# Altium integrated library Microchip PIC24F.IntLib: 529 symbols (part 2 of 32)
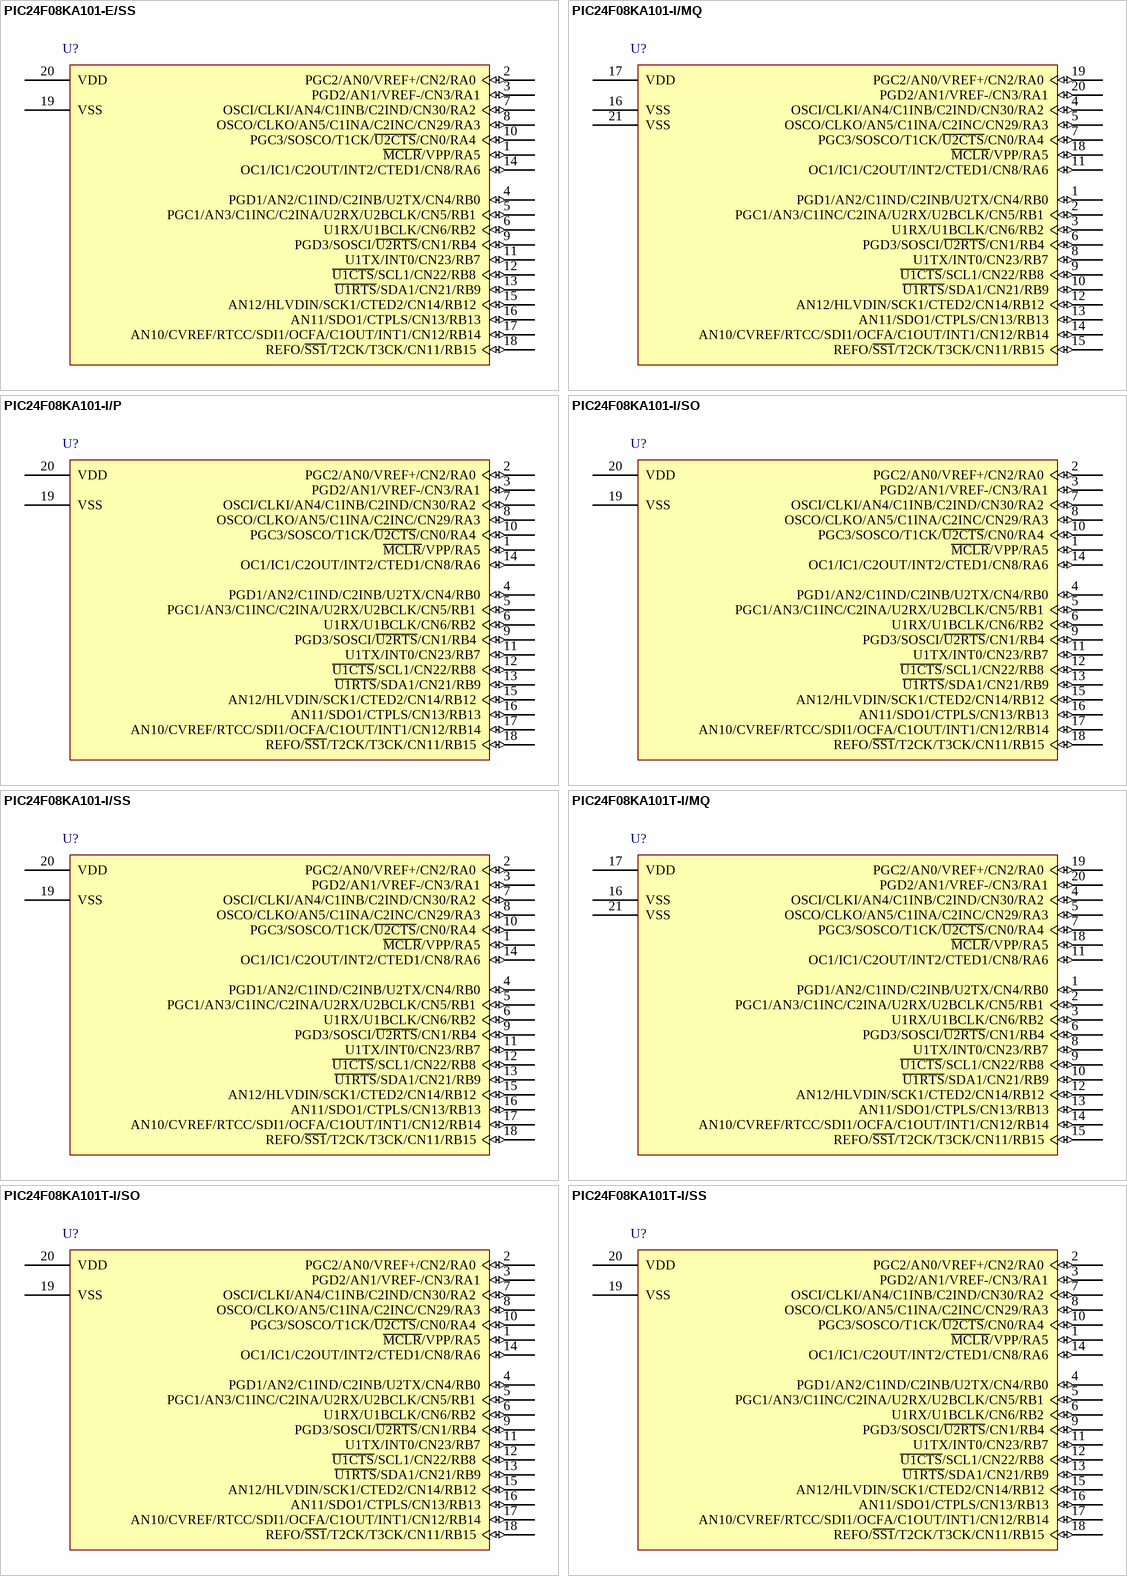
[diagram p123: symbols PIC24F08KA101-E/SS to PIC24F08KA101T-I/SS]

## PIC24F08KA101T-I/MQ
designator U?
16-Bit Flash Microcontroller with nanoWatt XLP Technology, 8KB Flash, 1.5KB SRAM, 20-Pin QFN, Industrial Temperature, Tape and Reel; Manufacturer: Microchip; PartNumber: PIC24F08KA101T-I/MQ; DatasheetVersion: revB, Mar-2009; PackageVersion: revBB, Aug-2009; PackageReference: QFN-MQ20; PackageDescription: 20-Lead Plastic Quad Flat, No Lead Package (MQ) - 5x5x0.9 mm Body [QFN]; Supplier 1: Digi-Key; Supplier Part Number 1: PIC24F08KA101T-I/MQ-ND; Supplier 2: Mouser; Supplier Part Number 2: 579-24F08KA101T-I/MQ; Mounting Technology: Surface Mount; ComponentLink1Description: Manufacturer URL; ComponentLink1URL: http://www.microchip.com/; ComponentLink2Description: Datasheet; ComponentLink2URL: http://ww1.microchip.com/downloads/en/DeviceDoc/PIC24F16KA102_Family_datasheet_39927b.pdf; ComponentLink3Description: Package Specification; ComponentLink3URL: http://www.microchip.com/stellent/groups/techpub_sg/documents/packagingspec/en012702.pdf
footprint QFN-MQ20_N (QFN, 20-Leads, Body 5x5mm, Pitch 0.65mm, Thermal Pad 3.4x3.4mm, IPC Medium Density)
footprint QFN-MQ20_L (QFN, 20-Leads, Body 5x5mm, Pitch 0.65mm, Thermal Pad 3.4x3.4mm, IPC High Density)
footprint QFN-MQ20_M (QFN, 20-Leads, Body 5x5mm, Pitch 0.65mm, Thermal Pad 3.4x3.4mm, IPC Low Density)
pins: 1 PGD1/AN2/C1IND/C2INB/U2TX/CN4/RB0 (io), 2 PGC1/AN3/C1INC/C2INA/U2RX/U2BCLK/CN5/RB1 (io), 3 U1RX/U1BCLK/CN6/RB2 (io), 4 OSCI/CLKI/AN4/C1INB/C2IND/CN30/RA2 (io), 5 OSCO/CLKO/AN5/C1INA/C2INC/CN29/RA3 (io), 6 PGD3/SOSCI/~{U2RTS}/CN1/RB4 (io), 7 PGC3/SOSCO/T1CK/~{U2CTS}/CN0/RA4 (io), 8 U1TX/INT0/CN23/RB7 (io), 9 ~{U1CTS}/SCL1/CN22/RB8 (io), 10 ~{U1RTS}/SDA1/CN21/RB9 (io), 11 OC1/IC1/C2OUT/INT2/CTED1/CN8/RA6 (io), 12 AN12/HLVDIN/SCK1/CTED2/CN14/RB12 (io), 13 AN11/SDO1/CTPLS/CN13/RB13 (io), 14 AN10/CVREF/RTCC/SDI1/OCFA/C1OUT/INT1/CN12/RB14 (io), 15 REFO/~{SS1}/T2CK/T3CK/CN11/RB15 (io), 16 VSS (power), 17 VDD (power), 18 ~{MCLR}/VPP/RA5 (io), 19 PGC2/AN0/VREF+/CN2/RA0 (io), 20 PGD2/AN1/VREF-/CN3/RA1 (io), 21 VSS (power)

## PIC24F08KA101T-I/SO
designator U?
16-Bit Flash Microcontroller with nanoWatt XLP Technology, 8KB Flash, 1.5KB SRAM, 20-Pin SOIC, Industrial Temperature, Tape and Reel; Manufacturer: Microchip; PartNumber: PIC24F08KA101T-I/SO; DatasheetVersion: revB, Mar-2009; PackageVersion: revBB, Aug-2009; PackageReference: SOIC-SO20; PackageDescription: 20-Lead Plastic Small Outline (SO) - Wide 7.50mm Body [SOIC]; Supplier 1: Digi-Key; Supplier Part Number 1: PIC24F08KA101T-I/SO-ND; Supplier 2: Mouser; Supplier Part Number 2: 579-P24F08KA101TISO; Mounting Technology: Surface Mount; Code_JEDEC: MS-013-AC; Code_IPC: SOIC127P1030-20; ComponentLink1Description: Manufacturer URL; ComponentLink1URL: http://www.microchip.com/; ComponentLink2Description: Datasheet; ComponentLink2URL: http://ww1.microchip.com/downloads/en/DeviceDoc/PIC24F16KA102_Family_datasheet_39927b.pdf; ComponentLink3Description: Package Specification; ComponentLink3URL: http://www.microchip.com/stellent/groups/techpub_sg/documents/packagingspec/en012702.pdf
footprint SOIC-SO20_N (SOIC, 20-Leads, Body 12.8x7.5mm, Pitch 1.27mm, IPC Medium Density)
footprint SOIC-SO20_L (SOIC, 20-Leads, Body 12.8x7.5mm, Pitch 1.27mm, IPC High Density)
footprint SOIC-SO20_M (SOIC, 20-Leads, Body 12.8x7.5mm, Pitch 1.27mm, IPC Low Density)
pins: 1 ~{MCLR}/VPP/RA5 (io), 2 PGC2/AN0/VREF+/CN2/RA0 (io), 3 PGD2/AN1/VREF-/CN3/RA1 (io), 4 PGD1/AN2/C1IND/C2INB/U2TX/CN4/RB0 (io), 5 PGC1/AN3/C1INC/C2INA/U2RX/U2BCLK/CN5/RB1 (io), 6 U1RX/U1BCLK/CN6/RB2 (io), 7 OSCI/CLKI/AN4/C1INB/C2IND/CN30/RA2 (io), 8 OSCO/CLKO/AN5/C1INA/C2INC/CN29/RA3 (io), 9 PGD3/SOSCI/~{U2RTS}/CN1/RB4 (io), 10 PGC3/SOSCO/T1CK/~{U2CTS}/CN0/RA4 (io), 11 U1TX/INT0/CN23/RB7 (io), 12 ~{U1CTS}/SCL1/CN22/RB8 (io), 13 ~{U1RTS}/SDA1/CN21/RB9 (io), 14 OC1/IC1/C2OUT/INT2/CTED1/CN8/RA6 (io), 15 AN12/HLVDIN/SCK1/CTED2/CN14/RB12 (io), 16 AN11/SDO1/CTPLS/CN13/RB13 (io), 17 AN10/CVREF/RTCC/SDI1/OCFA/C1OUT/INT1/CN12/RB14 (io), 18 REFO/~{SS1}/T2CK/T3CK/CN11/RB15 (io), 19 VSS (power), 20 VDD (power)

## PIC24F08KA101T-I/SS
designator U?
16-Bit Flash Microcontroller with nanoWatt XLP Technology, 8KB Flash, 1.5KB SRAM, 20-Pin SSOP, Industrial Temperature, Tape and Reel; Manufacturer: Microchip; PartNumber: PIC24F08KA101T-I/SS; DatasheetVersion: revB, Mar-2009; PackageVersion: revBB, Aug-2009; PackageReference: SSOP-SS20; PackageDescription: 20-Lead Plastic Shrink Small Outline (SS) - 5.3mm Body [SSOP]; Supplier 1: Digi-Key; Supplier Part Number 1: PIC24F08KA101T-I/SS-ND; Supplier 2: Mouser; Supplier Part Number 2: 579-P24F08KA101TISS; Mounting Technology: Surface Mount; Code_JEDEC: MO-150; ComponentLink1Description: Manufacturer URL; ComponentLink1URL: http://www.microchip.com/; ComponentLink2Description: Datasheet; ComponentLink2URL: http://ww1.microchip.com/downloads/en/DeviceDoc/PIC24F16KA102_Family_datasheet_39927b.pdf; ComponentLink3Description: Package Specification; ComponentLink3URL: http://www.microchip.com/stellent/groups/techpub_sg/documents/packagingspec/en012702.pdf
footprint SSOP-SS20_N (SOP, 20-Leads, Body 7.2x5.2mm, Pitch 0.65mm, IPC Medium Density)
footprint SSOP-SS20_L (SOP, 20-Leads, Body 7.2x5.2mm, Pitch 0.65mm, IPC High Density)
footprint SSOP-SS20_M (SOP, 20-Leads, Body 7.2x5.2mm, Pitch 0.65mm, IPC Low Density)
pins: 1 ~{MCLR}/VPP/RA5 (io), 2 PGC2/AN0/VREF+/CN2/RA0 (io), 3 PGD2/AN1/VREF-/CN3/RA1 (io), 4 PGD1/AN2/C1IND/C2INB/U2TX/CN4/RB0 (io), 5 PGC1/AN3/C1INC/C2INA/U2RX/U2BCLK/CN5/RB1 (io), 6 U1RX/U1BCLK/CN6/RB2 (io), 7 OSCI/CLKI/AN4/C1INB/C2IND/CN30/RA2 (io), 8 OSCO/CLKO/AN5/C1INA/C2INC/CN29/RA3 (io), 9 PGD3/SOSCI/~{U2RTS}/CN1/RB4 (io), 10 PGC3/SOSCO/T1CK/~{U2CTS}/CN0/RA4 (io), 11 U1TX/INT0/CN23/RB7 (io), 12 ~{U1CTS}/SCL1/CN22/RB8 (io), 13 ~{U1RTS}/SDA1/CN21/RB9 (io), 14 OC1/IC1/C2OUT/INT2/CTED1/CN8/RA6 (io), 15 AN12/HLVDIN/SCK1/CTED2/CN14/RB12 (io), 16 AN11/SDO1/CTPLS/CN13/RB13 (io), 17 AN10/CVREF/RTCC/SDI1/OCFA/C1OUT/INT1/CN12/RB14 (io), 18 REFO/~{SS1}/T2CK/T3CK/CN11/RB15 (io), 19 VSS (power), 20 VDD (power)

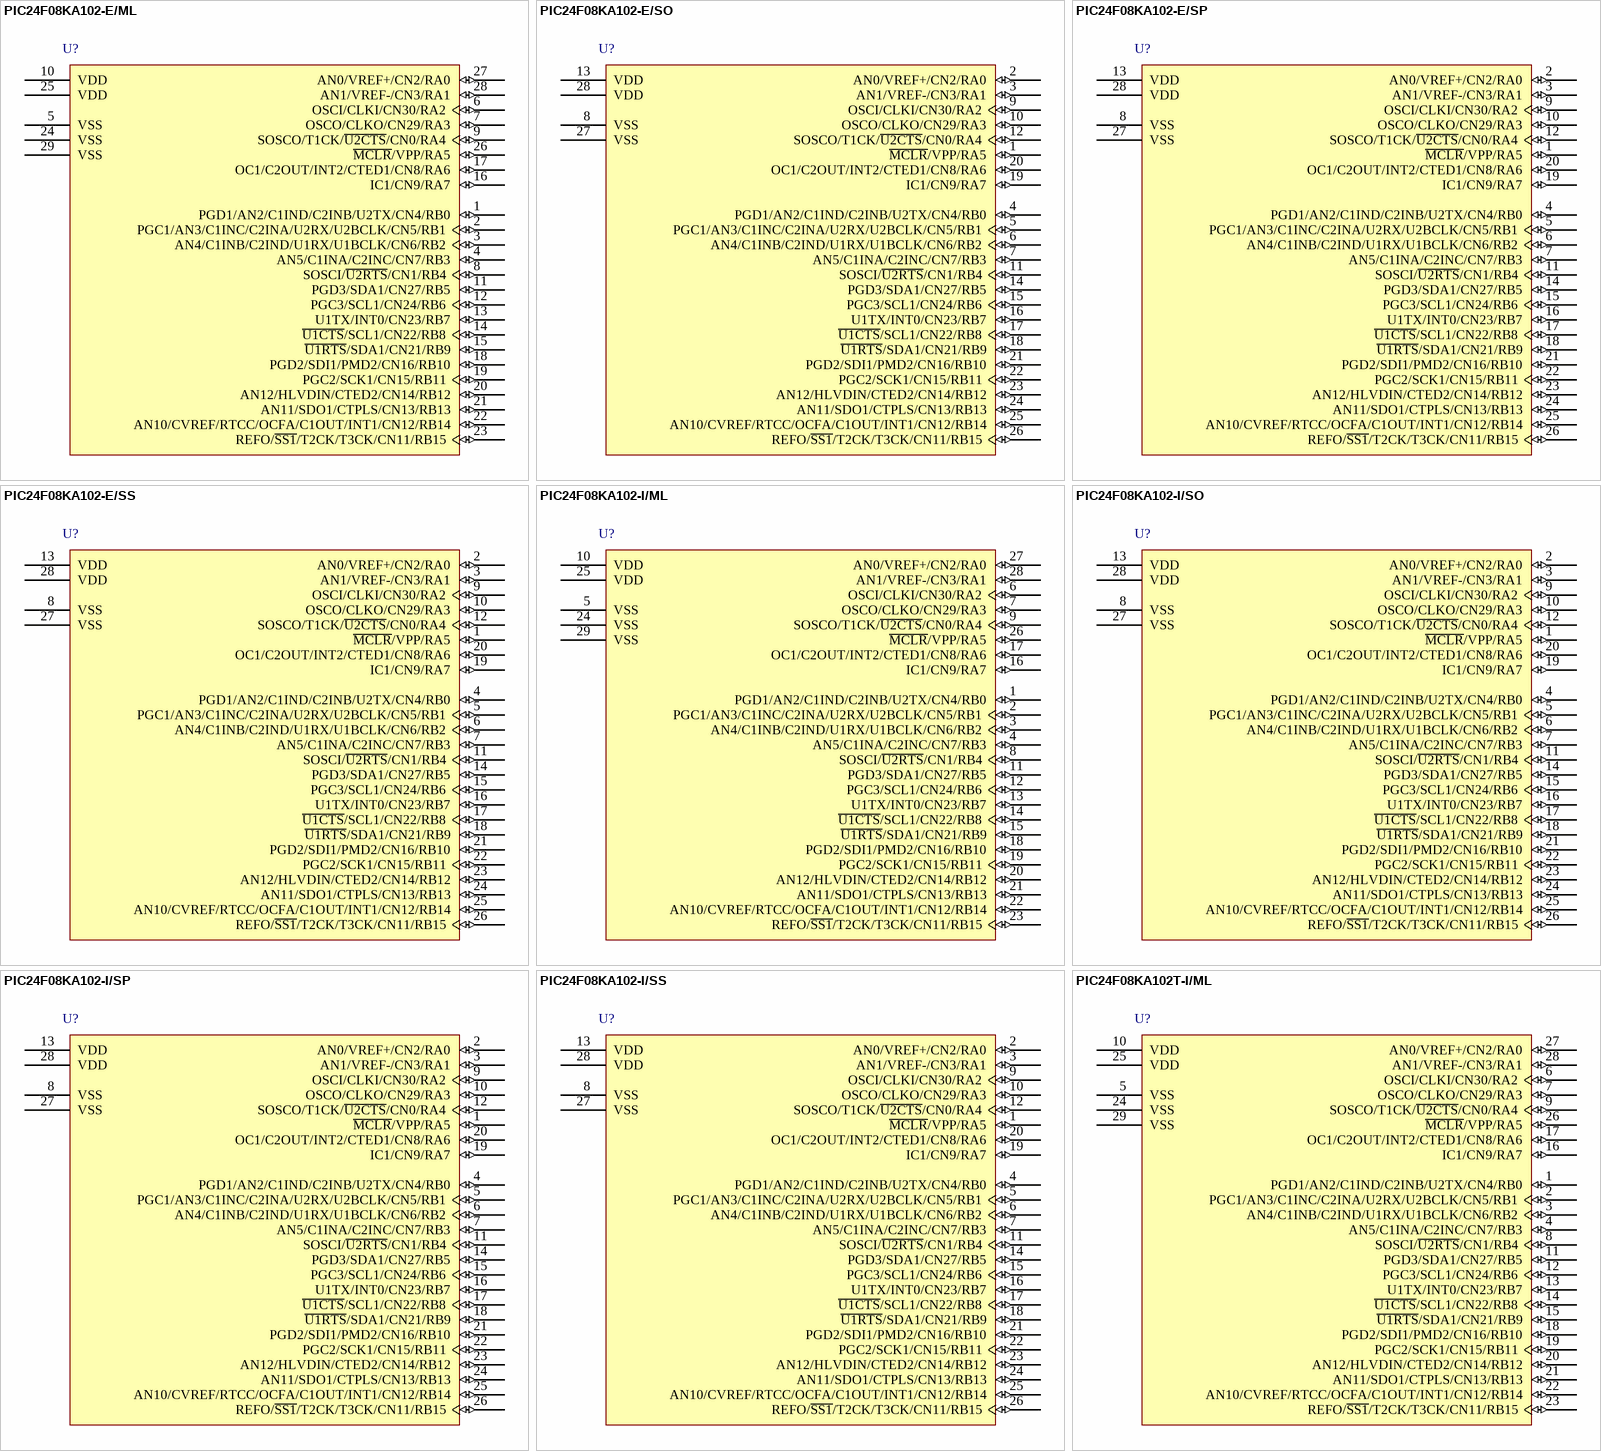
[diagram p3: symbols PIC24F08KA102-E/ML to PIC24F08KA102T-I/ML]

## PIC24F08KA102-E/ML
designator U?
16-Bit Flash Microcontroller with nanoWatt XLP Technology, 8KB Flash, 1.5KB SRAM, 28-Pin QFN, Extended Temperature; Manufacturer: Microchip; PartNumber: PIC24F08KA102-E/ML; DatasheetVersion: revB, Mar-2009; PackageVersion: revBB, Aug-2009; PackageReference: QFN-ML28; PackageDescription: 28-Lead Plastic Quad Flat, No Lead Package (ML) - 6x6 mm Body [QFN] with 0.55 mm Contact Length; Supplier 1: Digi-Key; Supplier Part Number 1: PIC24F08KA102-E/ML-ND; Supplier 2: Mouser; Supplier Part Number 2: 579-PIC24F08KA102EML; Mounting Technology: Surface Mount; Code_JEDEC: MO-220; ComponentLink1Description: Manufacturer URL; ComponentLink1URL: http://www.microchip.com/; ComponentLink2Description: Datasheet; ComponentLink2URL: http://ww1.microchip.com/downloads/en/DeviceDoc/PIC24F16KA102_Family_datasheet_39927b.pdf; ComponentLink3Description: Package Specification; ComponentLink3URL: http://www.microchip.com/stellent/groups/techpub_sg/documents/packagingspec/en012702.pdf
footprint QFN-ML28_N (QFN, 28-Leads, Body 6x6mm, Pitch 0.65mm, Thermal Pad 4.2x4.2mm, IPC Medium Density)
footprint QFN-ML28_L (QFN, 28-Leads, Body 6x6mm, Pitch 0.65mm, Thermal Pad 4.2x4.2mm, IPC High Density)
footprint QFN-ML28_M (QFN, 28-Leads, Body 6x6mm, Pitch 0.65mm, Thermal Pad 4.2x4.2mm, IPC Low Density)
pins: 1 PGD1/AN2/C1IND/C2INB/U2TX/CN4/RB0 (io), 2 PGC1/AN3/C1INC/C2INA/U2RX/U2BCLK/CN5/RB1 (io), 3 AN4/C1INB/C2IND/U1RX/U1BCLK/CN6/RB2 (io), 4 AN5/C1INA/C2INC/CN7/RB3 (io), 5 VSS (power), 6 OSCI/CLKI/CN30/RA2 (io), 7 OSCO/CLKO/CN29/RA3 (io), 8 SOSCI/~{U2RTS}/CN1/RB4 (io), 9 SOSCO/T1CK/~{U2CTS}/CN0/RA4 (io), 10 VDD (power), 11 PGD3/SDA1/CN27/RB5 (io), 12 PGC3/SCL1/CN24/RB6 (io), 13 U1TX/INT0/CN23/RB7 (io), 14 ~{U1CTS}/SCL1/CN22/RB8 (io), 15 ~{U1RTS}/SDA1/CN21/RB9 (io), 16 IC1/CN9/RA7 (io), 17 OC1/C2OUT/INT2/CTED1/CN8/RA6 (io), 18 PGD2/SDI1/PMD2/CN16/RB10 (io), 19 PGC2/SCK1/CN15/RB11 (io), 20 AN12/HLVDIN/CTED2/CN14/RB12 (io), 21 AN11/SDO1/CTPLS/CN13/RB13 (io), 22 AN10/CVREF/RTCC/OCFA/C1OUT/INT1/CN12/RB14 (io), 23 REFO/~{SS1}/T2CK/T3CK/CN11/RB15 (io), 24 VSS (power), 25 VDD (power), 26 ~{MCLR}/VPP/RA5 (io), 27 AN0/VREF+/CN2/RA0 (io), 28 AN1/VREF-/CN3/RA1 (io), 29 VSS (power)

## PIC24F08KA102-E/SO
designator U?
16-Bit Flash Microcontroller with nanoWatt XLP Technology, 8KB Flash, 1.5KB SRAM, 28-Pin SOIC, Extended Temperature; Manufacturer: Microchip; PartNumber: PIC24F08KA102-E/SO; DatasheetVersion: revB, Mar-2009; PackageVersion: revBB, Aug-2009; PackageReference: SOIC-SO28; PackageDescription: 28-Lead Plastic Small Outline (SO) - Wide 7.50mm Body [SOIC]; Supplier 1: Digi-Key; Supplier Part Number 1: PIC24F08KA102-E/SO-ND; Supplier 2: Mouser; Supplier Part Number 2: 579-PIC24F08KA102ESO; Mounting Technology: Surface Mount; Code_JEDEC: MS-013; ComponentLink1Description: Manufacturer URL; ComponentLink1URL: http://www.microchip.com/; ComponentLink2Description: Datasheet; ComponentLink2URL: http://ww1.microchip.com/downloads/en/DeviceDoc/PIC24F16KA102_Family_datasheet_39927b.pdf; ComponentLink3Description: Package Specification; ComponentLink3URL: http://www.microchip.com/stellent/groups/techpub_sg/documents/packagingspec/en012702.pdf
footprint SOIC-SO28_N (SOIC, 28-Leads, Body 17.9x7.5mm, Pitch 1.27mm, IPC Medium Density)
footprint SOIC-SO28_L (SOIC, 28-Leads, Body 17.9x7.5mm, Pitch 1.27mm, IPC High Density)
footprint SOIC-SO28_M (SOIC, 28-Leads, Body 17.9x7.5mm, Pitch 1.27mm, IPC Low Density)
pins: 1 ~{MCLR}/VPP/RA5 (io), 2 AN0/VREF+/CN2/RA0 (io), 3 AN1/VREF-/CN3/RA1 (io), 4 PGD1/AN2/C1IND/C2INB/U2TX/CN4/RB0 (io), 5 PGC1/AN3/C1INC/C2INA/U2RX/U2BCLK/CN5/RB1 (io), 6 AN4/C1INB/C2IND/U1RX/U1BCLK/CN6/RB2 (io), 7 AN5/C1INA/C2INC/CN7/RB3 (io), 8 VSS (power), 9 OSCI/CLKI/CN30/RA2 (io), 10 OSCO/CLKO/CN29/RA3 (io), 11 SOSCI/~{U2RTS}/CN1/RB4 (io), 12 SOSCO/T1CK/~{U2CTS}/CN0/RA4 (io), 13 VDD (power), 14 PGD3/SDA1/CN27/RB5 (io), 15 PGC3/SCL1/CN24/RB6 (io), 16 U1TX/INT0/CN23/RB7 (io), 17 ~{U1CTS}/SCL1/CN22/RB8 (io), 18 ~{U1RTS}/SDA1/CN21/RB9 (io), 19 IC1/CN9/RA7 (io), 20 OC1/C2OUT/INT2/CTED1/CN8/RA6 (io), 21 PGD2/SDI1/PMD2/CN16/RB10 (io), 22 PGC2/SCK1/CN15/RB11 (io), 23 AN12/HLVDIN/CTED2/CN14/RB12 (io), 24 AN11/SDO1/CTPLS/CN13/RB13 (io), 25 AN10/CVREF/RTCC/OCFA/C1OUT/INT1/CN12/RB14 (io), 26 REFO/~{SS1}/T2CK/T3CK/CN11/RB15 (io), 27 VSS (power), 28 VDD (power)

## PIC24F08KA102-E/SP
designator U?
16-Bit Flash Microcontroller with nanoWatt XLP Technology, 8KB Flash, 1.5KB SRAM, 28-Pin SPDIP, Extended Temperature; Manufacturer: Microchip; PartNumber: PIC24F08KA102-E/SP; DatasheetVersion: revB, Mar-2009; PackageVersion: revBB, Aug-2009; PackageReference: SPDIP300-SP28; PackageDescription: 28-Lead Skinny Plastic Dual In-Line (SP) - 300 mil Body [SPDIP]; Supplier 1: Digi-Key; Supplier Part Number 1: PIC24F08KA102-E/SP-ND; Supplier 2: Mouser; Supplier Part Number 2: 579-PIC24F08KA102ESP; Mounting Technology: Through Hole; ComponentLink1Description: Manufacturer URL; ComponentLink1URL: http://www.microchip.com/; ComponentLink2Description: Datasheet; ComponentLink2URL: http://ww1.microchip.com/downloads/en/DeviceDoc/PIC24F16KA102_Family_datasheet_39927b.pdf; ComponentLink3Description: Package Specification; ComponentLink3URL: http://www.microchip.com/stellent/groups/techpub_sg/documents/packagingspec/en012702.pdf
footprint SPDIP300-SP28 (DIP, 28-Leads, Row Spacing 7.62mm, Pitch 2.54mm, Body 34.9x6.8mm)
pins: 1 ~{MCLR}/VPP/RA5 (io), 2 AN0/VREF+/CN2/RA0 (io), 3 AN1/VREF-/CN3/RA1 (io), 4 PGD1/AN2/C1IND/C2INB/U2TX/CN4/RB0 (io), 5 PGC1/AN3/C1INC/C2INA/U2RX/U2BCLK/CN5/RB1 (io), 6 AN4/C1INB/C2IND/U1RX/U1BCLK/CN6/RB2 (io), 7 AN5/C1INA/C2INC/CN7/RB3 (io), 8 VSS (power), 9 OSCI/CLKI/CN30/RA2 (io), 10 OSCO/CLKO/CN29/RA3 (io), 11 SOSCI/~{U2RTS}/CN1/RB4 (io), 12 SOSCO/T1CK/~{U2CTS}/CN0/RA4 (io), 13 VDD (power), 14 PGD3/SDA1/CN27/RB5 (io), 15 PGC3/SCL1/CN24/RB6 (io), 16 U1TX/INT0/CN23/RB7 (io), 17 ~{U1CTS}/SCL1/CN22/RB8 (io), 18 ~{U1RTS}/SDA1/CN21/RB9 (io), 19 IC1/CN9/RA7 (io), 20 OC1/C2OUT/INT2/CTED1/CN8/RA6 (io), 21 PGD2/SDI1/PMD2/CN16/RB10 (io), 22 PGC2/SCK1/CN15/RB11 (io), 23 AN12/HLVDIN/CTED2/CN14/RB12 (io), 24 AN11/SDO1/CTPLS/CN13/RB13 (io), 25 AN10/CVREF/RTCC/OCFA/C1OUT/INT1/CN12/RB14 (io), 26 REFO/~{SS1}/T2CK/T3CK/CN11/RB15 (io), 27 VSS (power), 28 VDD (power)

## PIC24F08KA102-E/SS
designator U?
16-Bit Flash Microcontroller with nanoWatt XLP Technology, 8KB Flash, 1.5KB SRAM, 28-Pin SSOP, Extended Temperature; Manufacturer: Microchip; PartNumber: PIC24F08KA102-E/SS; DatasheetVersion: revB, Mar-2009; PackageVersion: revBB, Aug-2009; PackageReference: SSOP-SS28; PackageDescription: 28-Lead Plastic Shrink Small Outline (SS) - 5.3mm Body [SSOP]; Supplier 1: Digi-Key; Supplier Part Number 1: PIC24F08KA102-E/SS-ND; Supplier 2: Mouser; Supplier Part Number 2: 579-PIC24F08KA102ESS; Mounting Technology: Surface Mount; Code_JEDEC: MS-150; ComponentLink1Description: Manufacturer URL; ComponentLink1URL: http://www.microchip.com/; ComponentLink2Description: Datasheet; ComponentLink2URL: http://ww1.microchip.com/downloads/en/DeviceDoc/PIC24F16KA102_Family_datasheet_39927b.pdf; ComponentLink3Description: Package Specification; ComponentLink3URL: http://www.microchip.com/stellent/groups/techpub_sg/documents/packagingspec/en012702.pdf
footprint SSOP-SS28_N (SOP, 28-Leads, Body 10.2x5.2mm, Pitch 0.65mm, IPC Medium Density)
footprint SSOP-SS28_L (SOP, 28-Leads, Body 10.2x5.2mm, Pitch 0.65mm, IPC High Density)
footprint SSOP-SS28_M (SOP, 28-Leads, Body 10.2x5.2mm, Pitch 0.65mm, IPC Low Density)
pins: 1 ~{MCLR}/VPP/RA5 (io), 2 AN0/VREF+/CN2/RA0 (io), 3 AN1/VREF-/CN3/RA1 (io), 4 PGD1/AN2/C1IND/C2INB/U2TX/CN4/RB0 (io), 5 PGC1/AN3/C1INC/C2INA/U2RX/U2BCLK/CN5/RB1 (io), 6 AN4/C1INB/C2IND/U1RX/U1BCLK/CN6/RB2 (io), 7 AN5/C1INA/C2INC/CN7/RB3 (io), 8 VSS (power), 9 OSCI/CLKI/CN30/RA2 (io), 10 OSCO/CLKO/CN29/RA3 (io), 11 SOSCI/~{U2RTS}/CN1/RB4 (io), 12 SOSCO/T1CK/~{U2CTS}/CN0/RA4 (io), 13 VDD (power), 14 PGD3/SDA1/CN27/RB5 (io), 15 PGC3/SCL1/CN24/RB6 (io), 16 U1TX/INT0/CN23/RB7 (io), 17 ~{U1CTS}/SCL1/CN22/RB8 (io), 18 ~{U1RTS}/SDA1/CN21/RB9 (io), 19 IC1/CN9/RA7 (io), 20 OC1/C2OUT/INT2/CTED1/CN8/RA6 (io), 21 PGD2/SDI1/PMD2/CN16/RB10 (io), 22 PGC2/SCK1/CN15/RB11 (io), 23 AN12/HLVDIN/CTED2/CN14/RB12 (io), 24 AN11/SDO1/CTPLS/CN13/RB13 (io), 25 AN10/CVREF/RTCC/OCFA/C1OUT/INT1/CN12/RB14 (io), 26 REFO/~{SS1}/T2CK/T3CK/CN11/RB15 (io), 27 VSS (power), 28 VDD (power)

## PIC24F08KA102-I/ML
designator U?
16-Bit Flash Microcontroller with nanoWatt XLP Technology, 8KB Flash, 1.5KB SRAM, 28-Pin QFN, Industrial Temperature; Manufacturer: Microchip; PartNumber: PIC24F08KA102-I/ML; DatasheetVersion: revB, Mar-2009; PackageVersion: revBB, Aug-2009; PackageReference: QFN-ML28; PackageDescription: 28-Lead Plastic Quad Flat, No Lead Package (ML) - 6x6 mm Body [QFN] with 0.55 mm Contact Length; Supplier 1: Digi-Key; Supplier Part Number 1: PIC24F08KA102-I/ML-ND; Supplier 2: Farnell; Supplier Part Number 2: 1707622; Supplier 3: Newark; Supplier Part Number 3: 40M1454; Supplier 4: Mouser; Supplier Part Number 4: 579-PIC24F08KA102IML; Mounting Technology: Surface Mount; Code_JEDEC: MO-220; ComponentLink1Description: Manufacturer URL; ComponentLink1URL: http://www.microchip.com/; ComponentLink2Description: Datasheet; ComponentLink2URL: http://ww1.microchip.com/downloads/en/DeviceDoc/PIC24F16KA102_Family_datasheet_39927b.pdf; ComponentLink3Description: Package Specification; ComponentLink3URL: http://www.microchip.com/stellent/groups/techpub_sg/documents/packagingspec/en012702.pdf
footprint QFN-ML28_N (QFN, 28-Leads, Body 6x6mm, Pitch 0.65mm, Thermal Pad 4.2x4.2mm, IPC Medium Density)
footprint QFN-ML28_L (QFN, 28-Leads, Body 6x6mm, Pitch 0.65mm, Thermal Pad 4.2x4.2mm, IPC High Density)
footprint QFN-ML28_M (QFN, 28-Leads, Body 6x6mm, Pitch 0.65mm, Thermal Pad 4.2x4.2mm, IPC Low Density)
pins: 1 PGD1/AN2/C1IND/C2INB/U2TX/CN4/RB0 (io), 2 PGC1/AN3/C1INC/C2INA/U2RX/U2BCLK/CN5/RB1 (io), 3 AN4/C1INB/C2IND/U1RX/U1BCLK/CN6/RB2 (io), 4 AN5/C1INA/C2INC/CN7/RB3 (io), 5 VSS (power), 6 OSCI/CLKI/CN30/RA2 (io), 7 OSCO/CLKO/CN29/RA3 (io), 8 SOSCI/~{U2RTS}/CN1/RB4 (io), 9 SOSCO/T1CK/~{U2CTS}/CN0/RA4 (io), 10 VDD (power), 11 PGD3/SDA1/CN27/RB5 (io), 12 PGC3/SCL1/CN24/RB6 (io), 13 U1TX/INT0/CN23/RB7 (io), 14 ~{U1CTS}/SCL1/CN22/RB8 (io), 15 ~{U1RTS}/SDA1/CN21/RB9 (io), 16 IC1/CN9/RA7 (io), 17 OC1/C2OUT/INT2/CTED1/CN8/RA6 (io), 18 PGD2/SDI1/PMD2/CN16/RB10 (io), 19 PGC2/SCK1/CN15/RB11 (io), 20 AN12/HLVDIN/CTED2/CN14/RB12 (io), 21 AN11/SDO1/CTPLS/CN13/RB13 (io), 22 AN10/CVREF/RTCC/OCFA/C1OUT/INT1/CN12/RB14 (io), 23 REFO/~{SS1}/T2CK/T3CK/CN11/RB15 (io), 24 VSS (power), 25 VDD (power), 26 ~{MCLR}/VPP/RA5 (io), 27 AN0/VREF+/CN2/RA0 (io), 28 AN1/VREF-/CN3/RA1 (io), 29 VSS (power)

## PIC24F08KA102-I/SO
designator U?
16-Bit Flash Microcontroller with nanoWatt XLP Technology, 8KB Flash, 1.5KB SRAM, 28-Pin SOIC, Industrial Temperature; Manufacturer: Microchip; PartNumber: PIC24F08KA102-I/SO; DatasheetVersion: revB, Mar-2009; PackageVersion: revBB, Aug-2009; PackageReference: SOIC-SO28; PackageDescription: 28-Lead Plastic Small Outline (SO) - Wide 7.50mm Body [SOIC]; Supplier 1: Digi-Key; Supplier Part Number 1: PIC24F08KA102-I/SO-ND; Supplier 2: Farnell; Supplier Part Number 2: 1707623; Supplier 3: Newark; Supplier Part Number 3: 40M1455; Supplier 4: Mouser; Supplier Part Number 4: 579-PIC24F08KA102ISO; Mounting Technology: Surface Mount; Code_JEDEC: MS-013; ComponentLink1Description: Manufacturer URL; ComponentLink1URL: http://www.microchip.com/; ComponentLink2Description: Datasheet; ComponentLink2URL: http://ww1.microchip.com/downloads/en/DeviceDoc/PIC24F16KA102_Family_datasheet_39927b.pdf; ComponentLink3Description: Package Specification; ComponentLink3URL: http://www.microchip.com/stellent/groups/techpub_sg/documents/packagingspec/en012702.pdf
footprint SOIC-SO28_N (SOIC, 28-Leads, Body 17.9x7.5mm, Pitch 1.27mm, IPC Medium Density)
footprint SOIC-SO28_L (SOIC, 28-Leads, Body 17.9x7.5mm, Pitch 1.27mm, IPC High Density)
footprint SOIC-SO28_M (SOIC, 28-Leads, Body 17.9x7.5mm, Pitch 1.27mm, IPC Low Density)
pins: 1 ~{MCLR}/VPP/RA5 (io), 2 AN0/VREF+/CN2/RA0 (io), 3 AN1/VREF-/CN3/RA1 (io), 4 PGD1/AN2/C1IND/C2INB/U2TX/CN4/RB0 (io), 5 PGC1/AN3/C1INC/C2INA/U2RX/U2BCLK/CN5/RB1 (io), 6 AN4/C1INB/C2IND/U1RX/U1BCLK/CN6/RB2 (io), 7 AN5/C1INA/C2INC/CN7/RB3 (io), 8 VSS (power), 9 OSCI/CLKI/CN30/RA2 (io), 10 OSCO/CLKO/CN29/RA3 (io), 11 SOSCI/~{U2RTS}/CN1/RB4 (io), 12 SOSCO/T1CK/~{U2CTS}/CN0/RA4 (io), 13 VDD (power), 14 PGD3/SDA1/CN27/RB5 (io), 15 PGC3/SCL1/CN24/RB6 (io), 16 U1TX/INT0/CN23/RB7 (io), 17 ~{U1CTS}/SCL1/CN22/RB8 (io), 18 ~{U1RTS}/SDA1/CN21/RB9 (io), 19 IC1/CN9/RA7 (io), 20 OC1/C2OUT/INT2/CTED1/CN8/RA6 (io), 21 PGD2/SDI1/PMD2/CN16/RB10 (io), 22 PGC2/SCK1/CN15/RB11 (io), 23 AN12/HLVDIN/CTED2/CN14/RB12 (io), 24 AN11/SDO1/CTPLS/CN13/RB13 (io), 25 AN10/CVREF/RTCC/OCFA/C1OUT/INT1/CN12/RB14 (io), 26 REFO/~{SS1}/T2CK/T3CK/CN11/RB15 (io), 27 VSS (power), 28 VDD (power)

## PIC24F08KA102-I/SP
designator U?
16-Bit Flash Microcontroller with nanoWatt XLP Technology, 8KB Flash, 1.5KB SRAM, 28-Pin SPDIP, Industrial Temperature; Manufacturer: Microchip; PartNumber: PIC24F08KA102-I/SP; DatasheetVersion: revB, Mar-2009; PackageVersion: revBB, Aug-2009; PackageReference: SPDIP300-SP28; PackageDescription: 28-Lead Skinny Plastic Dual In-Line (SP) - 300 mil Body [SPDIP]; Supplier 1: Digi-Key; Supplier Part Number 1: PIC24F08KA102-I/SP-ND; Supplier 2: Farnell; Supplier Part Number 2: 1707624; Supplier 3: Newark; Supplier Part Number 3: 40M1456; Supplier 4: Mouser; Supplier Part Number 4: 579-PIC24F08KA102ISP; Mounting Technology: Through Hole; ComponentLink1Description: Manufacturer URL; ComponentLink1URL: http://www.microchip.com/; ComponentLink2Description: Datasheet; ComponentLink2URL: http://ww1.microchip.com/downloads/en/DeviceDoc/PIC24F16KA102_Family_datasheet_39927b.pdf; ComponentLink3Description: Package Specification; ComponentLink3URL: http://www.microchip.com/stellent/groups/techpub_sg/documents/packagingspec/en012702.pdf
footprint SPDIP300-SP28 (DIP, 28-Leads, Row Spacing 7.62mm, Pitch 2.54mm, Body 34.9x6.8mm)
pins: 1 ~{MCLR}/VPP/RA5 (io), 2 AN0/VREF+/CN2/RA0 (io), 3 AN1/VREF-/CN3/RA1 (io), 4 PGD1/AN2/C1IND/C2INB/U2TX/CN4/RB0 (io), 5 PGC1/AN3/C1INC/C2INA/U2RX/U2BCLK/CN5/RB1 (io), 6 AN4/C1INB/C2IND/U1RX/U1BCLK/CN6/RB2 (io), 7 AN5/C1INA/C2INC/CN7/RB3 (io), 8 VSS (power), 9 OSCI/CLKI/CN30/RA2 (io), 10 OSCO/CLKO/CN29/RA3 (io), 11 SOSCI/~{U2RTS}/CN1/RB4 (io), 12 SOSCO/T1CK/~{U2CTS}/CN0/RA4 (io), 13 VDD (power), 14 PGD3/SDA1/CN27/RB5 (io), 15 PGC3/SCL1/CN24/RB6 (io), 16 U1TX/INT0/CN23/RB7 (io), 17 ~{U1CTS}/SCL1/CN22/RB8 (io), 18 ~{U1RTS}/SDA1/CN21/RB9 (io), 19 IC1/CN9/RA7 (io), 20 OC1/C2OUT/INT2/CTED1/CN8/RA6 (io), 21 PGD2/SDI1/PMD2/CN16/RB10 (io), 22 PGC2/SCK1/CN15/RB11 (io), 23 AN12/HLVDIN/CTED2/CN14/RB12 (io), 24 AN11/SDO1/CTPLS/CN13/RB13 (io), 25 AN10/CVREF/RTCC/OCFA/C1OUT/INT1/CN12/RB14 (io), 26 REFO/~{SS1}/T2CK/T3CK/CN11/RB15 (io), 27 VSS (power), 28 VDD (power)

## PIC24F08KA102-I/SS
designator U?
16-Bit Flash Microcontroller with nanoWatt XLP Technology, 8KB Flash, 1.5KB SRAM, 28-Pin SSOP, Industrial Temperature; Manufacturer: Microchip; PartNumber: PIC24F08KA102-I/SS; DatasheetVersion: revB, Mar-2009; PackageVersion: revBB, Aug-2009; PackageReference: SSOP-SS28; PackageDescription: 28-Lead Plastic Shrink Small Outline (SS) - 5.3mm Body [SSOP]; Supplier 1: Digi-Key; Supplier Part Number 1: PIC24F08KA102-I/SS-ND; Supplier 2: Farnell; Supplier Part Number 2: 1707625; Supplier 3: Newark; Supplier Part Number 3: 40M1457; Supplier 4: Mouser; Supplier Part Number 4: 579-PIC24F08KA102ISS; Mounting Technology: Surface Mount; Code_JEDEC: MS-150; ComponentLink1Description: Manufacturer URL; ComponentLink1URL: http://www.microchip.com/; ComponentLink2Description: Datasheet; ComponentLink2URL: http://ww1.microchip.com/downloads/en/DeviceDoc/PIC24F16KA102_Family_datasheet_39927b.pdf; ComponentLink3Description: Package Specification; ComponentLink3URL: http://www.microchip.com/stellent/groups/techpub_sg/documents/packagingspec/en012702.pdf
footprint SSOP-SS28_N (SOP, 28-Leads, Body 10.2x5.2mm, Pitch 0.65mm, IPC Medium Density)
footprint SSOP-SS28_L (SOP, 28-Leads, Body 10.2x5.2mm, Pitch 0.65mm, IPC High Density)
footprint SSOP-SS28_M (SOP, 28-Leads, Body 10.2x5.2mm, Pitch 0.65mm, IPC Low Density)
pins: 1 ~{MCLR}/VPP/RA5 (io), 2 AN0/VREF+/CN2/RA0 (io), 3 AN1/VREF-/CN3/RA1 (io), 4 PGD1/AN2/C1IND/C2INB/U2TX/CN4/RB0 (io), 5 PGC1/AN3/C1INC/C2INA/U2RX/U2BCLK/CN5/RB1 (io), 6 AN4/C1INB/C2IND/U1RX/U1BCLK/CN6/RB2 (io), 7 AN5/C1INA/C2INC/CN7/RB3 (io), 8 VSS (power), 9 OSCI/CLKI/CN30/RA2 (io), 10 OSCO/CLKO/CN29/RA3 (io), 11 SOSCI/~{U2RTS}/CN1/RB4 (io), 12 SOSCO/T1CK/~{U2CTS}/CN0/RA4 (io), 13 VDD (power), 14 PGD3/SDA1/CN27/RB5 (io), 15 PGC3/SCL1/CN24/RB6 (io), 16 U1TX/INT0/CN23/RB7 (io), 17 ~{U1CTS}/SCL1/CN22/RB8 (io), 18 ~{U1RTS}/SDA1/CN21/RB9 (io), 19 IC1/CN9/RA7 (io), 20 OC1/C2OUT/INT2/CTED1/CN8/RA6 (io), 21 PGD2/SDI1/PMD2/CN16/RB10 (io), 22 PGC2/SCK1/CN15/RB11 (io), 23 AN12/HLVDIN/CTED2/CN14/RB12 (io), 24 AN11/SDO1/CTPLS/CN13/RB13 (io), 25 AN10/CVREF/RTCC/OCFA/C1OUT/INT1/CN12/RB14 (io), 26 REFO/~{SS1}/T2CK/T3CK/CN11/RB15 (io), 27 VSS (power), 28 VDD (power)

## PIC24F08KA102T-I/ML
designator U?
16-Bit Flash Microcontroller with nanoWatt XLP Technology, 8KB Flash, 1.5KB SRAM, 28-Pin QFN, Industrial Temperature, Tape and Reel; Manufacturer: Microchip; PartNumber: PIC24F08KA102T-I/ML; DatasheetVersion: revB, Mar-2009; PackageVersion: revBB, Aug-2009; PackageReference: QFN-ML28; PackageDescription: 28-Lead Plastic Quad Flat, No Lead Package (ML) - 6x6 mm Body [QFN] with 0.55 mm Contact Length; Supplier 1: Digi-Key; Supplier Part Number 1: PIC24F08KA102T-I/ML-ND; Supplier 2: Mouser; Supplier Part Number 2: 579-P24F08KA102TIML; Mounting Technology: Surface Mount; Code_JEDEC: MO-220; ComponentLink1Description: Manufacturer URL; ComponentLink1URL: http://www.microchip.com/; ComponentLink2Description: Datasheet; ComponentLink2URL: http://ww1.microchip.com/downloads/en/DeviceDoc/PIC24F16KA102_Family_datasheet_39927b.pdf; ComponentLink3Description: Package Specification; ComponentLink3URL: http://www.microchip.com/stellent/groups/techpub_sg/documents/packagingspec/en012702.pdf
footprint QFN-ML28_N (QFN, 28-Leads, Body 6x6mm, Pitch 0.65mm, Thermal Pad 4.2x4.2mm, IPC Medium Density)
footprint QFN-ML28_L (QFN, 28-Leads, Body 6x6mm, Pitch 0.65mm, Thermal Pad 4.2x4.2mm, IPC High Density)
footprint QFN-ML28_M (QFN, 28-Leads, Body 6x6mm, Pitch 0.65mm, Thermal Pad 4.2x4.2mm, IPC Low Density)
pins: 1 PGD1/AN2/C1IND/C2INB/U2TX/CN4/RB0 (io), 2 PGC1/AN3/C1INC/C2INA/U2RX/U2BCLK/CN5/RB1 (io), 3 AN4/C1INB/C2IND/U1RX/U1BCLK/CN6/RB2 (io), 4 AN5/C1INA/C2INC/CN7/RB3 (io), 5 VSS (power), 6 OSCI/CLKI/CN30/RA2 (io), 7 OSCO/CLKO/CN29/RA3 (io), 8 SOSCI/~{U2RTS}/CN1/RB4 (io), 9 SOSCO/T1CK/~{U2CTS}/CN0/RA4 (io), 10 VDD (power), 11 PGD3/SDA1/CN27/RB5 (io), 12 PGC3/SCL1/CN24/RB6 (io), 13 U1TX/INT0/CN23/RB7 (io), 14 ~{U1CTS}/SCL1/CN22/RB8 (io), 15 ~{U1RTS}/SDA1/CN21/RB9 (io), 16 IC1/CN9/RA7 (io), 17 OC1/C2OUT/INT2/CTED1/CN8/RA6 (io), 18 PGD2/SDI1/PMD2/CN16/RB10 (io), 19 PGC2/SCK1/CN15/RB11 (io), 20 AN12/HLVDIN/CTED2/CN14/RB12 (io), 21 AN11/SDO1/CTPLS/CN13/RB13 (io), 22 AN10/CVREF/RTCC/OCFA/C1OUT/INT1/CN12/RB14 (io), 23 REFO/~{SS1}/T2CK/T3CK/CN11/RB15 (io), 24 VSS (power), 25 VDD (power), 26 ~{MCLR}/VPP/RA5 (io), 27 AN0/VREF+/CN2/RA0 (io), 28 AN1/VREF-/CN3/RA1 (io), 29 VSS (power)

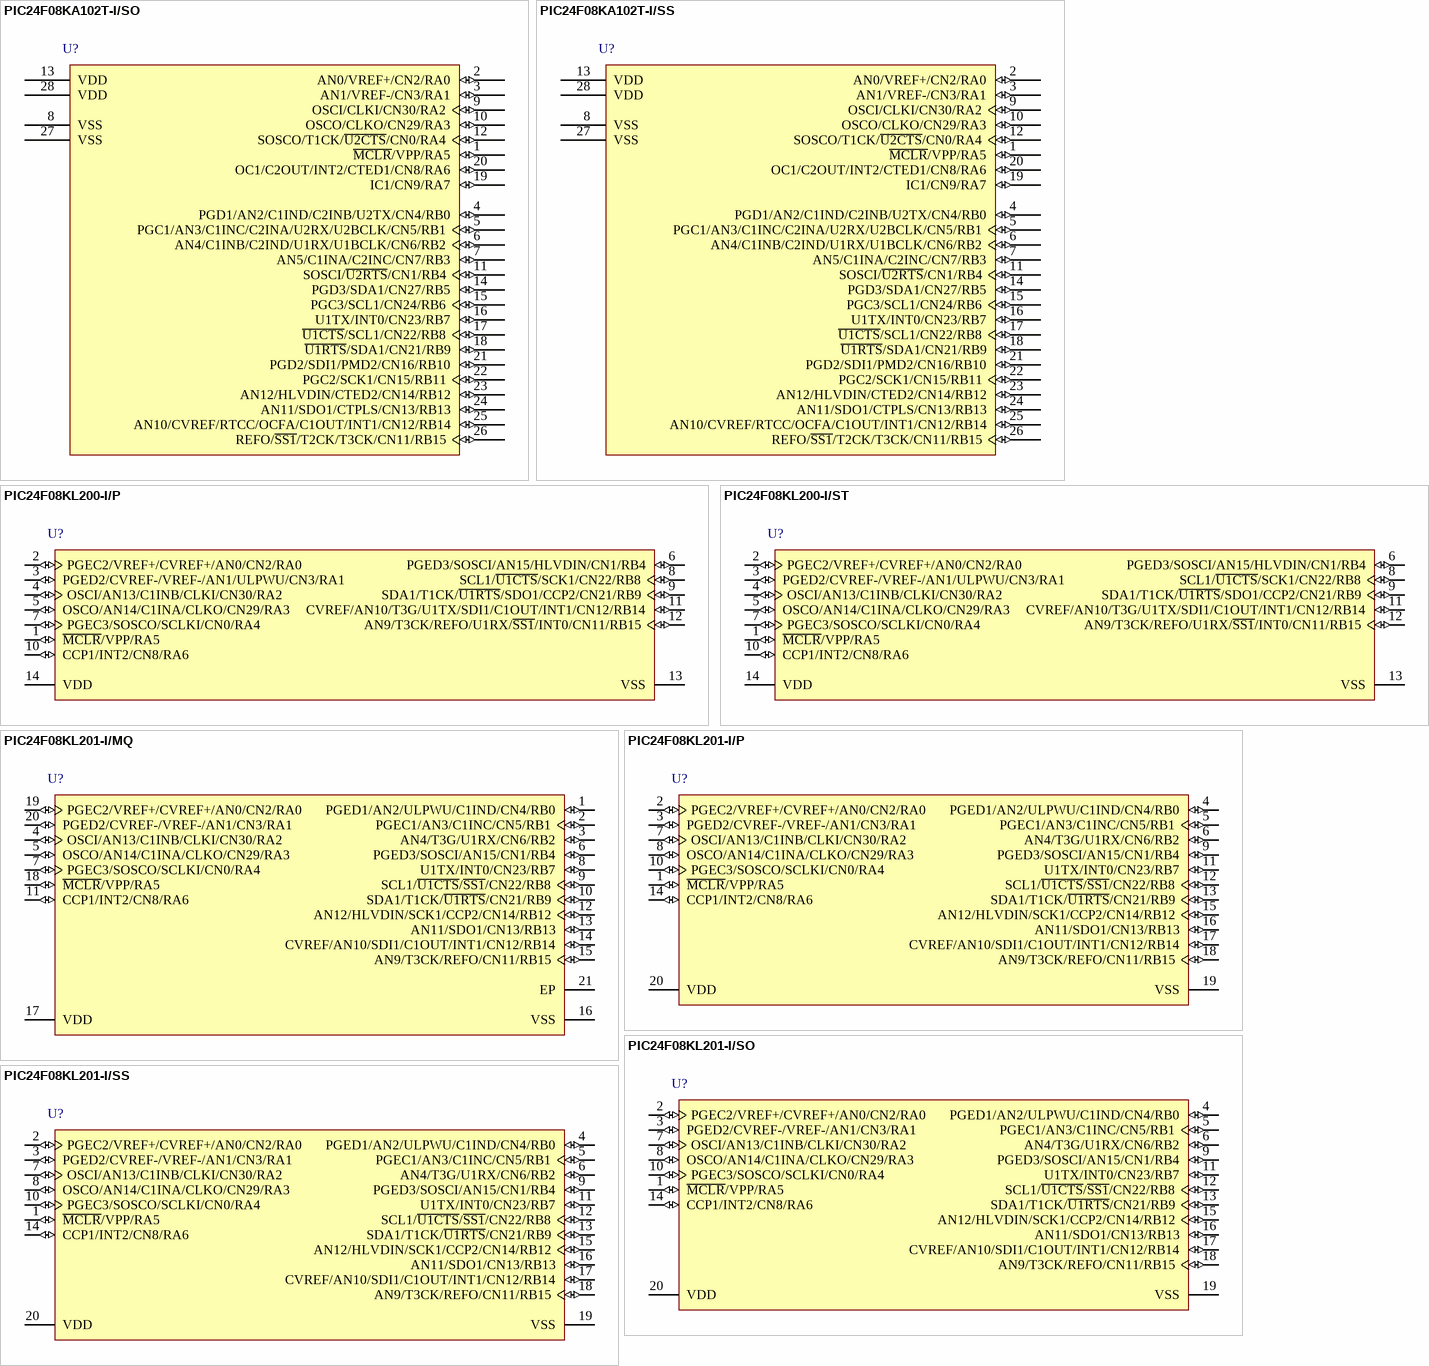
[diagram p4: symbols PIC24F08KA102T-I/SO to PIC24F08KL201-I/SS]

## PIC24F08KA102T-I/SO
designator U?
16-Bit Flash Microcontroller with nanoWatt XLP Technology, 8KB Flash, 1.5KB SRAM, 28-Pin SOIC, Industrial Temperature, Tape and Reel; Manufacturer: Microchip; PartNumber: PIC24F08KA102T-I/SO; DatasheetVersion: revB, Mar-2009; PackageVersion: revBB, Aug-2009; PackageReference: SOIC-SO28; PackageDescription: 28-Lead Plastic Small Outline (SO) - Wide 7.50mm Body [SOIC]; Supplier 1: Digi-Key; Supplier Part Number 1: PIC24F08KA102T-I/SO-ND; Supplier 2: Mouser; Supplier Part Number 2: 579-P24F08KA102TISO; Mounting Technology: Surface Mount; Code_JEDEC: MS-013; ComponentLink1Description: Manufacturer URL; ComponentLink1URL: http://www.microchip.com/; ComponentLink2Description: Datasheet; ComponentLink2URL: http://ww1.microchip.com/downloads/en/DeviceDoc/PIC24F16KA102_Family_datasheet_39927b.pdf; ComponentLink3Description: Package Specification; ComponentLink3URL: http://www.microchip.com/stellent/groups/techpub_sg/documents/packagingspec/en012702.pdf
footprint SOIC-SO28_N (SOIC, 28-Leads, Body 17.9x7.5mm, Pitch 1.27mm, IPC Medium Density)
footprint SOIC-SO28_L (SOIC, 28-Leads, Body 17.9x7.5mm, Pitch 1.27mm, IPC High Density)
footprint SOIC-SO28_M (SOIC, 28-Leads, Body 17.9x7.5mm, Pitch 1.27mm, IPC Low Density)
pins: 1 ~{MCLR}/VPP/RA5 (io), 2 AN0/VREF+/CN2/RA0 (io), 3 AN1/VREF-/CN3/RA1 (io), 4 PGD1/AN2/C1IND/C2INB/U2TX/CN4/RB0 (io), 5 PGC1/AN3/C1INC/C2INA/U2RX/U2BCLK/CN5/RB1 (io), 6 AN4/C1INB/C2IND/U1RX/U1BCLK/CN6/RB2 (io), 7 AN5/C1INA/C2INC/CN7/RB3 (io), 8 VSS (power), 9 OSCI/CLKI/CN30/RA2 (io), 10 OSCO/CLKO/CN29/RA3 (io), 11 SOSCI/~{U2RTS}/CN1/RB4 (io), 12 SOSCO/T1CK/~{U2CTS}/CN0/RA4 (io), 13 VDD (power), 14 PGD3/SDA1/CN27/RB5 (io), 15 PGC3/SCL1/CN24/RB6 (io), 16 U1TX/INT0/CN23/RB7 (io), 17 ~{U1CTS}/SCL1/CN22/RB8 (io), 18 ~{U1RTS}/SDA1/CN21/RB9 (io), 19 IC1/CN9/RA7 (io), 20 OC1/C2OUT/INT2/CTED1/CN8/RA6 (io), 21 PGD2/SDI1/PMD2/CN16/RB10 (io), 22 PGC2/SCK1/CN15/RB11 (io), 23 AN12/HLVDIN/CTED2/CN14/RB12 (io), 24 AN11/SDO1/CTPLS/CN13/RB13 (io), 25 AN10/CVREF/RTCC/OCFA/C1OUT/INT1/CN12/RB14 (io), 26 REFO/~{SS1}/T2CK/T3CK/CN11/RB15 (io), 27 VSS (power), 28 VDD (power)

## PIC24F08KA102T-I/SS
designator U?
16-Bit Flash Microcontroller with nanoWatt XLP Technology, 8KB Flash, 1.5KB SRAM, 28-Pin SSOP, Industrial Temperature, Tape and Reel; Manufacturer: Microchip; PartNumber: PIC24F08KA102T-I/SS; DatasheetVersion: revB, Mar-2009; PackageVersion: revBB, Aug-2009; PackageReference: SSOP-SS28; PackageDescription: 28-Lead Plastic Shrink Small Outline (SS) - 5.3mm Body [SSOP]; Supplier 1: Digi-Key; Supplier Part Number 1: PIC24F08KA102T-I/SS-ND; Supplier 2: Newark; Supplier Part Number 2: 07P9746; Supplier 3: Mouser; Supplier Part Number 3: 579-P24F08KA102TISS; Mounting Technology: Surface Mount; Code_JEDEC: MS-150; ComponentLink1Description: Manufacturer URL; ComponentLink1URL: http://www.microchip.com/; ComponentLink2Description: Datasheet; ComponentLink2URL: http://ww1.microchip.com/downloads/en/DeviceDoc/PIC24F16KA102_Family_datasheet_39927b.pdf; ComponentLink3Description: Package Specification; ComponentLink3URL: http://www.microchip.com/stellent/groups/techpub_sg/documents/packagingspec/en012702.pdf
footprint SSOP-SS28_N (SOP, 28-Leads, Body 10.2x5.2mm, Pitch 0.65mm, IPC Medium Density)
footprint SSOP-SS28_L (SOP, 28-Leads, Body 10.2x5.2mm, Pitch 0.65mm, IPC High Density)
footprint SSOP-SS28_M (SOP, 28-Leads, Body 10.2x5.2mm, Pitch 0.65mm, IPC Low Density)
pins: 1 ~{MCLR}/VPP/RA5 (io), 2 AN0/VREF+/CN2/RA0 (io), 3 AN1/VREF-/CN3/RA1 (io), 4 PGD1/AN2/C1IND/C2INB/U2TX/CN4/RB0 (io), 5 PGC1/AN3/C1INC/C2INA/U2RX/U2BCLK/CN5/RB1 (io), 6 AN4/C1INB/C2IND/U1RX/U1BCLK/CN6/RB2 (io), 7 AN5/C1INA/C2INC/CN7/RB3 (io), 8 VSS (power), 9 OSCI/CLKI/CN30/RA2 (io), 10 OSCO/CLKO/CN29/RA3 (io), 11 SOSCI/~{U2RTS}/CN1/RB4 (io), 12 SOSCO/T1CK/~{U2CTS}/CN0/RA4 (io), 13 VDD (power), 14 PGD3/SDA1/CN27/RB5 (io), 15 PGC3/SCL1/CN24/RB6 (io), 16 U1TX/INT0/CN23/RB7 (io), 17 ~{U1CTS}/SCL1/CN22/RB8 (io), 18 ~{U1RTS}/SDA1/CN21/RB9 (io), 19 IC1/CN9/RA7 (io), 20 OC1/C2OUT/INT2/CTED1/CN8/RA6 (io), 21 PGD2/SDI1/PMD2/CN16/RB10 (io), 22 PGC2/SCK1/CN15/RB11 (io), 23 AN12/HLVDIN/CTED2/CN14/RB12 (io), 24 AN11/SDO1/CTPLS/CN13/RB13 (io), 25 AN10/CVREF/RTCC/OCFA/C1OUT/INT1/CN12/RB14 (io), 26 REFO/~{SS1}/T2CK/T3CK/CN11/RB15 (io), 27 VSS (power), 28 VDD (power)

## PIC24F08KL200-I/P
designator U?
Low-Cost General Purpose 16-Bit Flash Microcontroller with nanoWatt XLP Technology, 16 MIPS, 12 I/O, -40 to 85 degC, 14-pin PDIP (P14), Tube; Manufacturer: Microchip; PartNumber: PIC24F08KL200-I/P; DatasheetVersion: Rev. B; PackageVersion: C04-005B; PackageReference: PDIP-P14; PackageDescription: 14-Lead Plastic Dual In-Line, 6.6 x 19.18 mm Body, 2.54 mm Pitch; Supplier 1: Digi-Key; Supplier Part Number 1: PIC24F08KL200-I/P-ND; Supplier 2: Newark; Supplier Part Number 2: 64T1087; Supplier 3: Mouser; Supplier Part Number 3: 579-PIC24F08KL200-IP; Mounting Technology: Through Hole; ComponentLink1Description: Manufacturer URL; ComponentLink1URL: http://www.microchip.com; ComponentLink2Description: Datasheet; ComponentLink2URL: http://ww1.microchip.com/downloads/en/DeviceDoc/31037b.pdf; ComponentLink3Description: Package Specification; ComponentLink3URL: http://www.microchip.com/stellent/groups/techpub_sg/documents/packagingspec/en012702.pdf; ComponentLink4Description: Product URL; ComponentLink4URL: http://www.microchip.com/PIC24F08KL200
footprint MCHP-PDIP-P14 (DIP, 14-Leads, Body 19.177x6.604mm, Pitch 2.54mm)
pins: 1 ~{MCLR}/VPP/RA5 (io), 2 PGEC2/VREF+/CVREF+/AN0/CN2/RA0 (io), 3 PGED2/CVREF-/VREF-/AN1/ULPWU/CN3/RA1 (io), 4 OSCI/AN13/C1INB/CLKI/CN30/RA2 (io), 5 OSCO/AN14/C1INA/CLKO/CN29/RA3 (io), 6 PGED3/SOSCI/AN15/HLVDIN/CN1/RB4 (io), 7 PGEC3/SOSCO/SCLKI/CN0/RA4 (io), 8 SCL1/~{U1CTS}/SCK1/CN22/RB8 (io), 9 SDA1/T1CK/~{U1RTS}/SDO1/CCP2/CN21/RB9 (io), 10 CCP1/INT2/CN8/RA6 (io), 11 CVREF/AN10/T3G/U1TX/SDI1/C1OUT/INT1/CN12/RB14 (io), 12 AN9/T3CK/REFO/U1RX/~{SS1}/INT0/CN11/RB15 (io), 13 VSS (power) "Ground Reference for Logic and I/O Pins", 14 VDD (power) "Positive Supply for Peripheral Digital Logic and I/O Pins"

## PIC24F08KL200-I/ST
designator U?
Low-Cost General Purpose 16-Bit Flash Microcontroller with nanoWatt XLP Technology, 16 MIPS, 12 I/O, -40 to 85 degC, 14-pin TSSOP (ST14), Tube; Manufacturer: Microchip; PartNumber: PIC24F08KL200-I/ST; DatasheetVersion: Rev. B; PackageVersion: C04-087C; PackageReference: TSSOP-ST14; PackageDescription: 14-Lead Plastic Thin Shrink Small Outline, 5 x 4.4 mm Body, 0.65 mm Pitch; Supplier 1: Digi-Key; Supplier Part Number 1: PIC24F08KL200-I/ST-ND; Supplier 2: Mouser; Supplier Part Number 2: 579-PIC24F08KL200IST; Mounting Technology: Surface Mount; ComponentLink1Description: Manufacturer URL; ComponentLink1URL: http://www.microchip.com; ComponentLink2Description: Datasheet; ComponentLink2URL: http://ww1.microchip.com/downloads/en/DeviceDoc/31037b.pdf; ComponentLink3Description: Package Specification; ComponentLink3URL: http://www.microchip.com/stellent/groups/techpub_sg/documents/packagingspec/en012702.pdf; ComponentLink4Description: Product URL; ComponentLink4URL: http://www.microchip.com/PIC24F08KL200
footprint MCHP-TSSOP-ST14_N (SOP, 14-Leads, Body 5x4.4mm, Pitch 0.65mm, IPC Medium Density)
footprint MCHP-TSSOP-ST14_L (SOP, 14-Leads, Body 5x4.4mm, Pitch 0.65mm, IPC High Density)
footprint MCHP-TSSOP-ST14_M (SOP, 14-Leads, Body 5x4.4mm, Pitch 0.65mm, IPC Low Density)
pins: 1 ~{MCLR}/VPP/RA5 (io), 2 PGEC2/VREF+/CVREF+/AN0/CN2/RA0 (io), 3 PGED2/CVREF-/VREF-/AN1/ULPWU/CN3/RA1 (io), 4 OSCI/AN13/C1INB/CLKI/CN30/RA2 (io), 5 OSCO/AN14/C1INA/CLKO/CN29/RA3 (io), 6 PGED3/SOSCI/AN15/HLVDIN/CN1/RB4 (io), 7 PGEC3/SOSCO/SCLKI/CN0/RA4 (io), 8 SCL1/~{U1CTS}/SCK1/CN22/RB8 (io), 9 SDA1/T1CK/~{U1RTS}/SDO1/CCP2/CN21/RB9 (io), 10 CCP1/INT2/CN8/RA6 (io), 11 CVREF/AN10/T3G/U1TX/SDI1/C1OUT/INT1/CN12/RB14 (io), 12 AN9/T3CK/REFO/U1RX/~{SS1}/INT0/CN11/RB15 (io), 13 VSS (power) "Ground Reference for Logic and I/O Pins", 14 VDD (power) "Positive Supply for Peripheral Digital Logic and I/O Pins"

## PIC24F08KL201-I/MQ
designator U?
Low-Cost General Purpose 16-Bit Flash Microcontroller with nanoWatt XLP Technology, 16 MIPS, 17 I/O, -40 to 85 degC, 20-pin QFN (MQ20), Tube; Manufacturer: Microchip; PartNumber: PIC24F08KL201-I/MQ; DatasheetVersion: Rev. B; PackageVersion: C04-139B; PackageReference: QFN-MQ20; PackageDescription: 20-Lead Plastic Quad Flat, No Lead Package, 5 x 5 mm Body, 0.65 mm Pitch; Supplier 1: Digi-Key; Supplier Part Number 1: PIC24F08KL201-I/MQ-ND; Supplier 2: Mouser; Supplier Part Number 2: 579-PIC24F08KL201IMQ; Mounting Technology: Surface Mount; ComponentLink1Description: Manufacturer URL; ComponentLink1URL: http://www.microchip.com; ComponentLink2Description: Datasheet; ComponentLink2URL: http://ww1.microchip.com/downloads/en/DeviceDoc/31037b.pdf; ComponentLink3Description: Package Specification; ComponentLink3URL: http://www.microchip.com/stellent/groups/techpub_sg/documents/packagingspec/en012702.pdf; ComponentLink4Description: Product URL; ComponentLink4URL: http://www.microchip.com/PIC24F08KL201
footprint MCHP-QFN-MQ20_N (QFN, 20-Leads, Body 5x5mm, Pitch 0.65mm, Thermal Pad 3.25x3.25mm, IPC Medium Density)
footprint MCHP-QFN-MQ20_L (QFN, 20-Leads, Body 5x5mm, Pitch 0.65mm, Thermal Pad 3.25x3.25mm, IPC High Density)
footprint MCHP-QFN-MQ20_M (QFN, 20-Leads, Body 5x5mm, Pitch 0.65mm, Thermal Pad 3.25x3.25mm, IPC Low Density)
pins: 1 PGED1/AN2/ULPWU/C1IND/CN4/RB0 (io), 2 PGEC1/AN3/C1INC/CN5/RB1 (io), 3 AN4/T3G/U1RX/CN6/RB2 (io), 4 OSCI/AN13/C1INB/CLKI/CN30/RA2 (io), 5 OSCO/AN14/C1INA/CLKO/CN29/RA3 (io), 6 PGED3/SOSCI/AN15/CN1/RB4 (io), 7 PGEC3/SOSCO/SCLKI/CN0/RA4 (io), 8 U1TX/INT0/CN23/RB7 (io), 9 SCL1/~{U1CTS}/~{SS1}/CN22/RB8 (io), 10 SDA1/T1CK/~{U1RTS}/CN21/RB9 (io), 11 CCP1/INT2/CN8/RA6 (io), 12 AN12/HLVDIN/SCK1/CCP2/CN14/RB12 (io), 13 AN11/SDO1/CN13/RB13 (io), 14 CVREF/AN10/SDI1/C1OUT/INT1/CN12/RB14 (io), 15 AN9/T3CK/REFO/CN11/RB15 (io), 16 VSS (power) "Ground Reference for Logic and I/O Pins", 17 VDD (power) "Positive Supply for Peripheral Digital Logic and I/O Pins", 18 ~{MCLR}/VPP/RA5 (io), 19 PGEC2/VREF+/CVREF+/AN0/CN2/RA0 (io), 20 PGED2/CVREF-/VREF-/AN1/CN3/RA1 (io), 21 EP (power) "EXPOSED PAD"

## PIC24F08KL201-I/P
designator U?
Low-Cost General Purpose 16-Bit Flash Microcontroller with nanoWatt XLP Technology, 16 MIPS, 17 I/O, -40 to 85 degC, 20-pin PDIP (P20), Tube; Manufacturer: Microchip; PartNumber: PIC24F08KL201-I/P; DatasheetVersion: Rev. B; PackageVersion: C04-019B; PackageReference: PDIP-P20; PackageDescription: 20-Pin Plastic Dual In-Line, Row Spacing 7.62 mm, 25.91 x 6.6 mm Body, 2.54 mm Pitch; Supplier 1: Digi-Key; Supplier Part Number 1: PIC24F08KL201-I/P-ND; Supplier 2: Mouser; Supplier Part Number 2: 579-PIC24F08KL201-IP; Mounting Technology: Through Hole; ComponentLink1Description: Manufacturer URL; ComponentLink1URL: http://www.microchip.com; ComponentLink2Description: Datasheet; ComponentLink2URL: http://ww1.microchip.com/downloads/en/DeviceDoc/31037b.pdf; ComponentLink3Description: Package Specification; ComponentLink3URL: http://www.microchip.com/stellent/groups/techpub_sg/documents/packagingspec/en012702.pdf; ComponentLink4Description: Product URL; ComponentLink4URL: http://www.microchip.com/PIC24F08KL201
footprint MCHP-PDIP-P20 (DIP, 20-Leads, Body 25.91x6.6mm, Pitch 2.54mm)
pins: 1 ~{MCLR}/VPP/RA5 (io), 2 PGEC2/VREF+/CVREF+/AN0/CN2/RA0 (io), 3 PGED2/CVREF-/VREF-/AN1/CN3/RA1 (io), 4 PGED1/AN2/ULPWU/C1IND/CN4/RB0 (io), 5 PGEC1/AN3/C1INC/CN5/RB1 (io), 6 AN4/T3G/U1RX/CN6/RB2 (io), 7 OSCI/AN13/C1INB/CLKI/CN30/RA2 (io), 8 OSCO/AN14/C1INA/CLKO/CN29/RA3 (io), 9 PGED3/SOSCI/AN15/CN1/RB4 (io), 10 PGEC3/SOSCO/SCLKI/CN0/RA4 (io), 11 U1TX/INT0/CN23/RB7 (io), 12 SCL1/~{U1CTS}/~{SS1}/CN22/RB8 (io), 13 SDA1/T1CK/~{U1RTS}/CN21/RB9 (io), 14 CCP1/INT2/CN8/RA6 (io), 15 AN12/HLVDIN/SCK1/CCP2/CN14/RB12 (io), 16 AN11/SDO1/CN13/RB13 (io), 17 CVREF/AN10/SDI1/C1OUT/INT1/CN12/RB14 (io), 18 AN9/T3CK/REFO/CN11/RB15 (io), 19 VSS (power) "Ground Reference for Logic and I/O Pins", 20 VDD (power) "Positive Supply for Peripheral Digital Logic and I/O Pins"

## PIC24F08KL201-I/SO
designator U?
Low-Cost General Purpose 16-Bit Flash Microcontroller with nanoWatt XLP Technology, 16 MIPS, 17 I/O, -40 to 85 degC, 20-pin SOIC (SO20), Tube; Manufacturer: Microchip; PartNumber: PIC24F08KL201-I/SO; DatasheetVersion: Rev. B; PackageVersion: C04-094C; PackageReference: SOIC-SO20; PackageDescription: 20-Lead Plastic Small Outline, 7.5 x 12.8 mm Body, 1.27 mm Pitch; Supplier 1: Digi-Key; Supplier Part Number 1: PIC24F08KL201-I/SO-ND; Supplier 2: Farnell; Supplier Part Number 2: 2079394; Supplier 3: Newark; Supplier Part Number 3: 64T1092; Supplier 4: Mouser; Supplier Part Number 4: 579-PIC24F08KL201ISO; Mounting Technology: Surface Mount; ComponentLink1Description: Manufacturer URL; ComponentLink1URL: http://www.microchip.com; ComponentLink2Description: Datasheet; ComponentLink2URL: http://ww1.microchip.com/downloads/en/DeviceDoc/31037b.pdf; ComponentLink3Description: Package Specification; ComponentLink3URL: http://www.microchip.com/stellent/groups/techpub_sg/documents/packagingspec/en012702.pdf; ComponentLink4Description: Product URL; ComponentLink4URL: http://www.microchip.com/PIC24F08KL201
footprint MCHP-SOIC-SO20_N (SOIC, 20-Leads, Body 12.8x7.5mm, Pitch 1.27mm, , IPC Medium Density)
footprint MCHP-SOIC-SO20_L (SOIC, 20-Leads, Body 12.8x7.5mm, Pitch 1.27mm, , IPC High Density)
footprint MCHP-SOIC-SO20_M (SOIC, 20-Leads, Body 12.8x7.5mm, Pitch 1.27mm, , IPC Low Density)
pins: 1 ~{MCLR}/VPP/RA5 (io), 2 PGEC2/VREF+/CVREF+/AN0/CN2/RA0 (io), 3 PGED2/CVREF-/VREF-/AN1/CN3/RA1 (io), 4 PGED1/AN2/ULPWU/C1IND/CN4/RB0 (io), 5 PGEC1/AN3/C1INC/CN5/RB1 (io), 6 AN4/T3G/U1RX/CN6/RB2 (io), 7 OSCI/AN13/C1INB/CLKI/CN30/RA2 (io), 8 OSCO/AN14/C1INA/CLKO/CN29/RA3 (io), 9 PGED3/SOSCI/AN15/CN1/RB4 (io), 10 PGEC3/SOSCO/SCLKI/CN0/RA4 (io), 11 U1TX/INT0/CN23/RB7 (io), 12 SCL1/~{U1CTS}/~{SS1}/CN22/RB8 (io), 13 SDA1/T1CK/~{U1RTS}/CN21/RB9 (io), 14 CCP1/INT2/CN8/RA6 (io), 15 AN12/HLVDIN/SCK1/CCP2/CN14/RB12 (io), 16 AN11/SDO1/CN13/RB13 (io), 17 CVREF/AN10/SDI1/C1OUT/INT1/CN12/RB14 (io), 18 AN9/T3CK/REFO/CN11/RB15 (io), 19 VSS (power) "Ground Reference for Logic and I/O Pins", 20 VDD (power) "Positive Supply for Peripheral Digital Logic and I/O Pins"

## PIC24F08KL201-I/SS
designator U?
Low-Cost General Purpose 16-Bit Flash Microcontroller with nanoWatt XLP Technology, 16 MIPS, 17 I/O, -40 to 85 degC, 20-pin SSOP (SS20), Tube; Manufacturer: Microchip; PartNumber: PIC24F08KL201-I/SS; DatasheetVersion: Rev. B; PackageVersion: C04-072B; PackageReference: SSOP-SS20; PackageDescription: 20-Lead Plastic Shrink Small Outline, 5.3 x 7.2 mm Body, 0.65 mm Pitch; Supplier 1: Digi-Key; Supplier Part Number 1: PIC24F08KL201-I/SS-ND; Supplier 2: Farnell; Supplier Part Number 2: 2079395; Supplier 3: Newark; Supplier Part Number 3: 64T1093; Supplier 4: Mouser; Supplier Part Number 4: 579-PIC24F08KL201ISS; Mounting Technology: Surface Mount; ComponentLink1Description: Manufacturer URL; ComponentLink1URL: http://www.microchip.com; ComponentLink2Description: Datasheet; ComponentLink2URL: http://ww1.microchip.com/downloads/en/DeviceDoc/31037b.pdf; ComponentLink3Description: Package Specification; ComponentLink3URL: http://www.microchip.com/stellent/groups/techpub_sg/documents/packagingspec/en012702.pdf; ComponentLink4Description: Product URL; ComponentLink4URL: http://www.microchip.com/PIC24F08KL201
footprint MCHP-SSOP-SS20_N (SOP, 20-Leads, Body 7.2x5.3mm, Pitch 0.65mm, IPC Medium Density)
footprint MCHP-SSOP-SS20_L (SOP, 20-Leads, Body 7.2x5.3mm, Pitch 0.65mm, IPC High Density)
footprint MCHP-SSOP-SS20_M (SOP, 20-Leads, Body 7.2x5.3mm, Pitch 0.65mm, IPC Low Density)
pins: 1 ~{MCLR}/VPP/RA5 (io), 2 PGEC2/VREF+/CVREF+/AN0/CN2/RA0 (io), 3 PGED2/CVREF-/VREF-/AN1/CN3/RA1 (io), 4 PGED1/AN2/ULPWU/C1IND/CN4/RB0 (io), 5 PGEC1/AN3/C1INC/CN5/RB1 (io), 6 AN4/T3G/U1RX/CN6/RB2 (io), 7 OSCI/AN13/C1INB/CLKI/CN30/RA2 (io), 8 OSCO/AN14/C1INA/CLKO/CN29/RA3 (io), 9 PGED3/SOSCI/AN15/CN1/RB4 (io), 10 PGEC3/SOSCO/SCLKI/CN0/RA4 (io), 11 U1TX/INT0/CN23/RB7 (io), 12 SCL1/~{U1CTS}/~{SS1}/CN22/RB8 (io), 13 SDA1/T1CK/~{U1RTS}/CN21/RB9 (io), 14 CCP1/INT2/CN8/RA6 (io), 15 AN12/HLVDIN/SCK1/CCP2/CN14/RB12 (io), 16 AN11/SDO1/CN13/RB13 (io), 17 CVREF/AN10/SDI1/C1OUT/INT1/CN12/RB14 (io), 18 AN9/T3CK/REFO/CN11/RB15 (io), 19 VSS (power) "Ground Reference for Logic and I/O Pins", 20 VDD (power) "Positive Supply for Peripheral Digital Logic and I/O Pins"

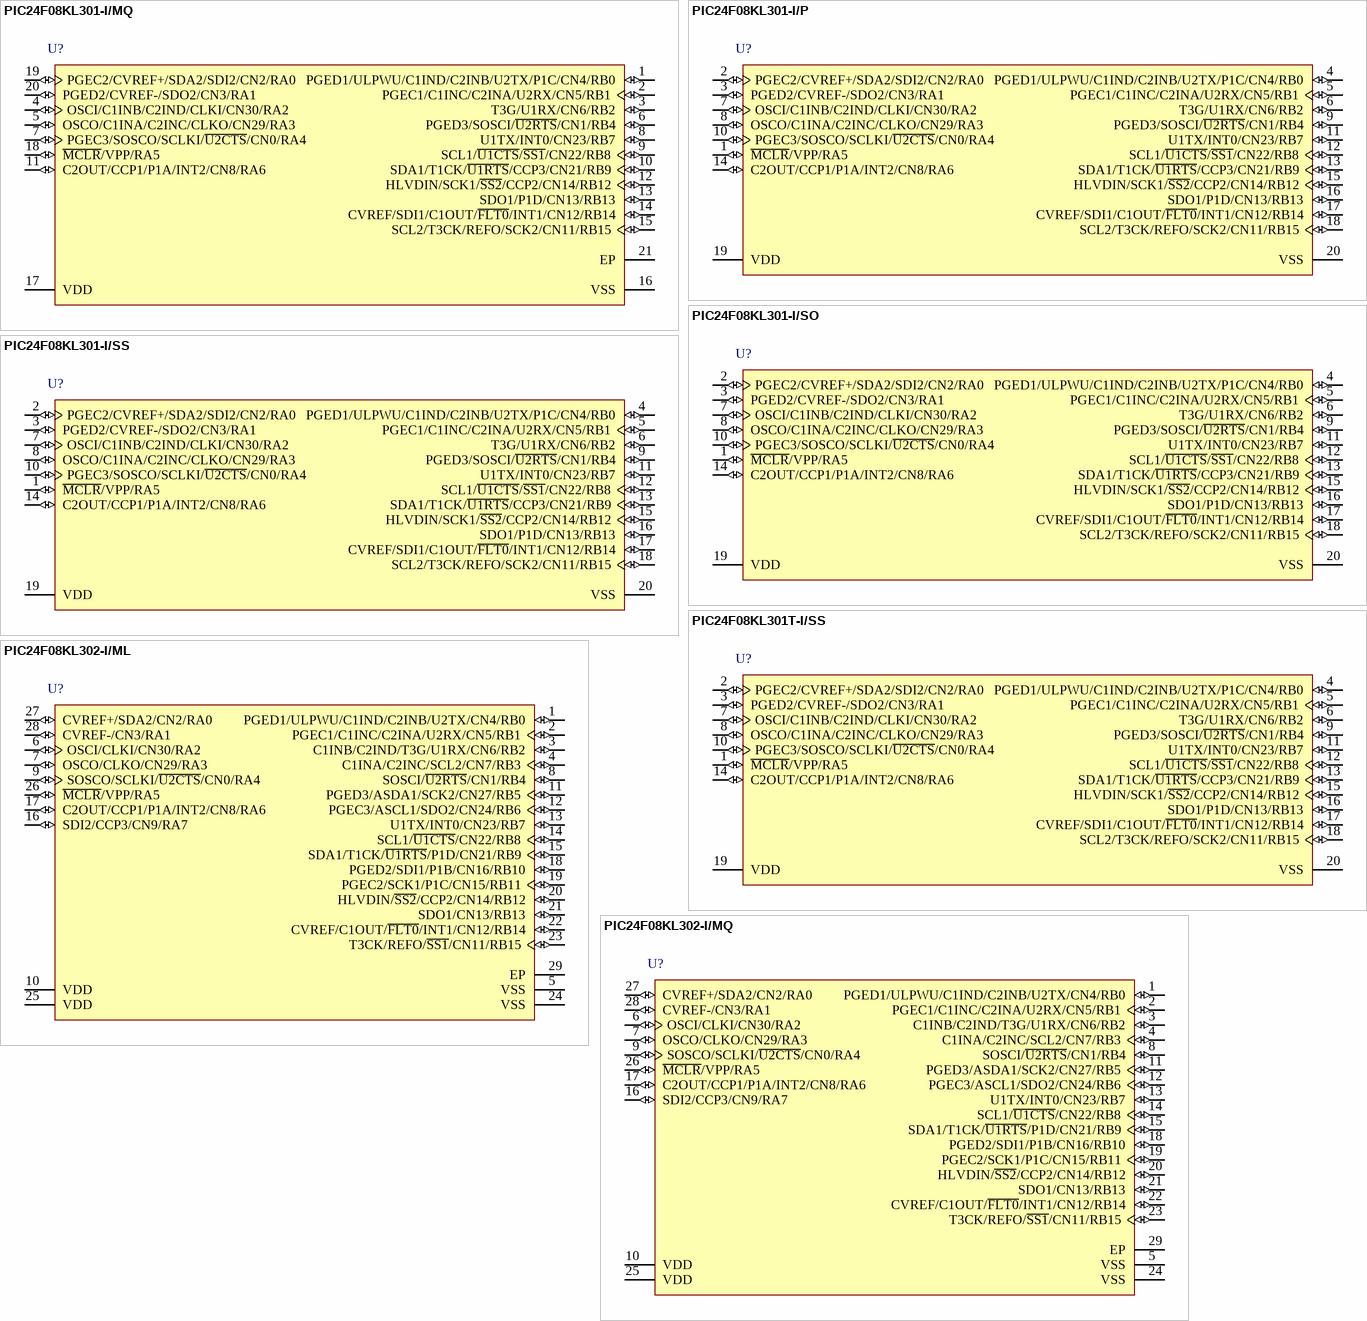
[diagram p5: symbols PIC24F08KL301-I/MQ to PIC24F08KL302-I/MQ]

## PIC24F08KL301-I/MQ
designator U?
Low-Cost General Purpose 16-Bit Flash Microcontroller with nanoWatt XLP Technology, 16 MIPS, 18 I/O, -40 to 85 degC, 20-pin QFN (MQ20), Tube; Manufacturer: Microchip; PartNumber: PIC24F08KL301-I/MQ; DatasheetVersion: Rev. B; PackageVersion: C04-139B; PackageReference: QFN-MQ20; PackageDescription: 20-Lead Plastic Quad Flat, No Lead Package, 5 x 5 mm Body, 0.65 mm Pitch; Supplier 1: Digi-Key; Supplier Part Number 1: PIC24F08KL301-I/MQ-ND; Supplier 2: Farnell; Supplier Part Number 2: 2079396; Supplier 3: Newark; Supplier Part Number 3: 64T1097; Supplier 4: Mouser; Supplier Part Number 4: 579-PIC24F08KL301IMQ; Mounting Technology: Surface Mount; ComponentLink1Description: Manufacturer URL; ComponentLink1URL: http://www.microchip.com; ComponentLink2Description: Datasheet; ComponentLink2URL: http://ww1.microchip.com/downloads/en/DeviceDoc/31037b.pdf; ComponentLink3Description: Package Specification; ComponentLink3URL: http://www.microchip.com/stellent/groups/techpub_sg/documents/packagingspec/en012702.pdf; ComponentLink4Description: Product URL; ComponentLink4URL: http://www.microchip.com/PIC24F08KL301
footprint MCHP-QFN-MQ20_N (QFN, 20-Leads, Body 5x5mm, Pitch 0.65mm, Thermal Pad 3.25x3.25mm, IPC Medium Density)
footprint MCHP-QFN-MQ20_L (QFN, 20-Leads, Body 5x5mm, Pitch 0.65mm, Thermal Pad 3.25x3.25mm, IPC High Density)
footprint MCHP-QFN-MQ20_M (QFN, 20-Leads, Body 5x5mm, Pitch 0.65mm, Thermal Pad 3.25x3.25mm, IPC Low Density)
pins: 1 PGED1/ULPWU/C1IND/C2INB/U2TX/P1C/CN4/RB0 (io), 2 PGEC1/C1INC/C2INA/U2RX/CN5/RB1 (io), 3 T3G/U1RX/CN6/RB2 (io), 4 OSCI/C1INB/C2IND/CLKI/CN30/RA2 (io), 5 OSCO/C1INA/C2INC/CLKO/CN29/RA3 (io), 6 PGED3/SOSCI/~{U2RTS}/CN1/RB4 (io), 7 PGEC3/SOSCO/SCLKI/~{U2CTS}/CN0/RA4 (io), 8 U1TX/INT0/CN23/RB7 (io), 9 SCL1/~{U1CTS}/~{SS1}/CN22/RB8 (io), 10 SDA1/T1CK/~{U1RTS}/CCP3/CN21/RB9 (io), 11 C2OUT/CCP1/P1A/INT2/CN8/RA6 (io), 12 HLVDIN/SCK1/~{SS2}/CCP2/CN14/RB12 (io), 13 SDO1/P1D/CN13/RB13 (io), 14 CVREF/SDI1/C1OUT/~{FLT0}/INT1/CN12/RB14 (io), 15 SCL2/T3CK/REFO/SCK2/CN11/RB15 (io), 16 VSS (power) "Ground Reference for Logic and I/O Pins", 17 VDD (power) "Positive Supply for Peripheral Digital Logic and I/O Pins", 18 ~{MCLR}/VPP/RA5 (io), 19 PGEC2/CVREF+/SDA2/SDI2/CN2/RA0 (io), 20 PGED2/CVREF-/SDO2/CN3/RA1 (io), 21 EP (power) "EXPOSED PAD"

## PIC24F08KL301-I/P
designator U?
Low-Cost General Purpose 16-Bit Flash Microcontroller with nanoWatt XLP Technology, 16 MIPS, 18 I/O, -40 to 85 degC, 20-pin PDIP (P20), Tube; Manufacturer: Microchip; PartNumber: PIC24F08KL301-I/P; DatasheetVersion: Rev. B; PackageVersion: C04-019B; PackageReference: PDIP-P20; PackageDescription: 20-Pin Plastic Dual In-Line, Row Spacing 7.62 mm, 25.91 x 6.6 mm Body, 2.54 mm Pitch; Supplier 1: Digi-Key; Supplier Part Number 1: PIC24F08KL301-I/P-ND; Supplier 2: Farnell; Supplier Part Number 2: 2079397; Supplier 3: Newark; Supplier Part Number 3: 82T9608; Supplier 4: Newark; Supplier Part Number 4: 64T1098; Supplier 5: Mouser; Supplier Part Number 5: 579-PIC24F08KL301-IP; Mounting Technology: Through Hole; ComponentLink1Description: Manufacturer URL; ComponentLink1URL: http://www.microchip.com; ComponentLink2Description: Datasheet; ComponentLink2URL: http://ww1.microchip.com/downloads/en/DeviceDoc/31037b.pdf; ComponentLink3Description: Package Specification; ComponentLink3URL: http://www.microchip.com/stellent/groups/techpub_sg/documents/packagingspec/en012702.pdf; ComponentLink4Description: Product URL; ComponentLink4URL: http://www.microchip.com/PIC24F08KL301
footprint MCHP-PDIP-P20 (DIP, 20-Leads, Body 25.91x6.6mm, Pitch 2.54mm)
pins: 1 ~{MCLR}/VPP/RA5 (io), 2 PGEC2/CVREF+/SDA2/SDI2/CN2/RA0 (io), 3 PGED2/CVREF-/SDO2/CN3/RA1 (io), 4 PGED1/ULPWU/C1IND/C2INB/U2TX/P1C/CN4/RB0 (io), 5 PGEC1/C1INC/C2INA/U2RX/CN5/RB1 (io), 6 T3G/U1RX/CN6/RB2 (io), 7 OSCI/C1INB/C2IND/CLKI/CN30/RA2 (io), 8 OSCO/C1INA/C2INC/CLKO/CN29/RA3 (io), 9 PGED3/SOSCI/~{U2RTS}/CN1/RB4 (io), 10 PGEC3/SOSCO/SCLKI/~{U2CTS}/CN0/RA4 (io), 11 U1TX/INT0/CN23/RB7 (io), 12 SCL1/~{U1CTS}/~{SS1}/CN22/RB8 (io), 13 SDA1/T1CK/~{U1RTS}/CCP3/CN21/RB9 (io), 14 C2OUT/CCP1/P1A/INT2/CN8/RA6 (io), 15 HLVDIN/SCK1/~{SS2}/CCP2/CN14/RB12 (io), 16 SDO1/P1D/CN13/RB13 (io), 17 CVREF/SDI1/C1OUT/~{FLT0}/INT1/CN12/RB14 (io), 18 SCL2/T3CK/REFO/SCK2/CN11/RB15 (io), 19 VDD (power) "Ground Reference for Logic and I/O Pins", 20 VSS (power) "Positive Supply for Peripheral Digital Logic and I/O Pins"

## PIC24F08KL301-I/SO
designator U?
Low-Cost General Purpose 16-Bit Flash Microcontroller with nanoWatt XLP Technology, 16 MIPS, 18 I/O, -40 to 85 degC, 20-pin SOIC (SO20), Tube; Manufacturer: Microchip; PartNumber: PIC24F08KL301-I/SO; DatasheetVersion: Rev. B; PackageVersion: C04-094C; PackageReference: SOIC-SO20; PackageDescription: 20-Lead Plastic Small Outline, 7.5 x 12.8 mm Body, 1.27 mm Pitch; Supplier 1: Digi-Key; Supplier Part Number 1: PIC24F08KL301-I/SO-ND; Supplier 2: Newark; Supplier Part Number 2: 64T1099; Supplier 3: Mouser; Supplier Part Number 3: 579-PIC24F08KL301ISO; Mounting Technology: Surface Mount; ComponentLink1Description: Manufacturer URL; ComponentLink1URL: http://www.microchip.com; ComponentLink2Description: Datasheet; ComponentLink2URL: http://ww1.microchip.com/downloads/en/DeviceDoc/31037b.pdf; ComponentLink3Description: Package Specification; ComponentLink3URL: http://www.microchip.com/stellent/groups/techpub_sg/documents/packagingspec/en012702.pdf; ComponentLink4Description: Product URL; ComponentLink4URL: http://www.microchip.com/PIC24F08KL301
footprint MCHP-SOIC-SO20_N (SOIC, 20-Leads, Body 12.8x7.5mm, Pitch 1.27mm, , IPC Medium Density)
footprint MCHP-SOIC-SO20_L (SOIC, 20-Leads, Body 12.8x7.5mm, Pitch 1.27mm, , IPC High Density)
footprint MCHP-SOIC-SO20_M (SOIC, 20-Leads, Body 12.8x7.5mm, Pitch 1.27mm, , IPC Low Density)
pins: 1 ~{MCLR}/VPP/RA5 (io), 2 PGEC2/CVREF+/SDA2/SDI2/CN2/RA0 (io), 3 PGED2/CVREF-/SDO2/CN3/RA1 (io), 4 PGED1/ULPWU/C1IND/C2INB/U2TX/P1C/CN4/RB0 (io), 5 PGEC1/C1INC/C2INA/U2RX/CN5/RB1 (io), 6 T3G/U1RX/CN6/RB2 (io), 7 OSCI/C1INB/C2IND/CLKI/CN30/RA2 (io), 8 OSCO/C1INA/C2INC/CLKO/CN29/RA3 (io), 9 PGED3/SOSCI/~{U2RTS}/CN1/RB4 (io), 10 PGEC3/SOSCO/SCLKI/~{U2CTS}/CN0/RA4 (io), 11 U1TX/INT0/CN23/RB7 (io), 12 SCL1/~{U1CTS}/~{SS1}/CN22/RB8 (io), 13 SDA1/T1CK/~{U1RTS}/CCP3/CN21/RB9 (io), 14 C2OUT/CCP1/P1A/INT2/CN8/RA6 (io), 15 HLVDIN/SCK1/~{SS2}/CCP2/CN14/RB12 (io), 16 SDO1/P1D/CN13/RB13 (io), 17 CVREF/SDI1/C1OUT/~{FLT0}/INT1/CN12/RB14 (io), 18 SCL2/T3CK/REFO/SCK2/CN11/RB15 (io), 19 VDD (power) "Ground Reference for Logic and I/O Pins", 20 VSS (power) "Positive Supply for Peripheral Digital Logic and I/O Pins"